# EAGLE library part MT29F8G08DAA (library memory-micron)
4Gb, 8Gb, and 16Gb x8 NAND Flash Memory Source: http://download.micron.com/pdf/datasheets/flash/nand/4gb_nand_m40a.pdf
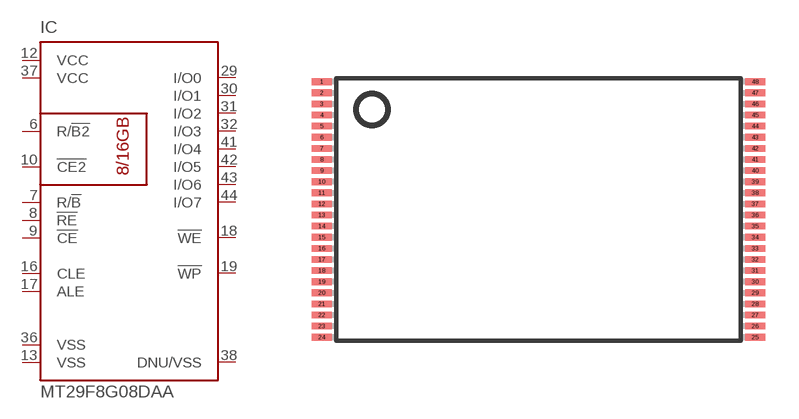
[diagram p5: symbol with the pads of TSOP48; footprint TSOP48]

Designator prefix IC

## MT29F8G08DAA (OC_FARNELL: unknown; OC_NEWARK: unknown)  [TSOP48]
6  R/!B2  pas
7  R/!B  in
8  !RE  in
9  !CE  in
10  !CE2  pas
12  VCC  pwr
13  VSS  pwr
16  CLE  in
17  ALE  in
18  !WE  in
19  !WP  in
25  DNU  nc
26  DNU  nc
29  I/O0
30  I/O1
31  I/O2
32  I/O3
36  VSS  pwr
37  VCC  pwr
38  DNU/VSS  pas
41  I/O4
42  I/O5
43  I/O6
44  I/O7
48  DNU  nc

## Footprint TSOP48 (pad centres in mm)
48-Pin TSOP OCPL Type 1 (WC Package Code) Source: http://download.micron.com/pdf/datasheets/flash/nand/4gb_nand_m40a.pdf
smd 0.9 x 0.3: 1 -9.75,5.75; 2 -9.75,5.25; 3 -9.75,4.75; 4 -9.75,4.25; 5 -9.75,3.75; 6 -9.75,3.25; 7 -9.75,2.75; 8 -9.75,2.25; 9 -9.75,1.75; 10 -9.75,1.25; 11 -9.75,0.75; 12 -9.75,0.25; 13 -9.75,-0.25; 14 -9.75,-0.75; 15 -9.75,-1.25; 16 -9.75,-1.75; 17 -9.75,-2.25; 18 -9.75,-2.75; 19 -9.75,-3.25; 20 -9.75,-3.75; 21 -9.75,-4.25; 22 -9.75,-4.75; 23 -9.75,-5.25; 24 -9.75,-5.75; 25 9.75,-5.75; 26 9.75,-5.25; 27 9.75,-4.75; 28 9.75,-4.25; 29 9.75,-3.75; 30 9.75,-3.25; 31 9.75,-2.75; 32 9.75,-2.25; 33 9.75,-1.75; 34 9.75,-1.25; 35 9.75,-0.75; 36 9.75,-0.25; 37 9.75,0.25; 38 9.75,0.75; 39 9.75,1.25; 40 9.75,1.75; 41 9.75,2.25; 42 9.75,2.75; 43 9.75,3.25; 44 9.75,3.75; 45 9.75,4.25; 46 9.75,4.75; 47 9.75,5.25; 48 9.75,5.75